# EAGLE library part CC3000 (library BaseApp)
Digikey No :- __296-35512-1-ND__
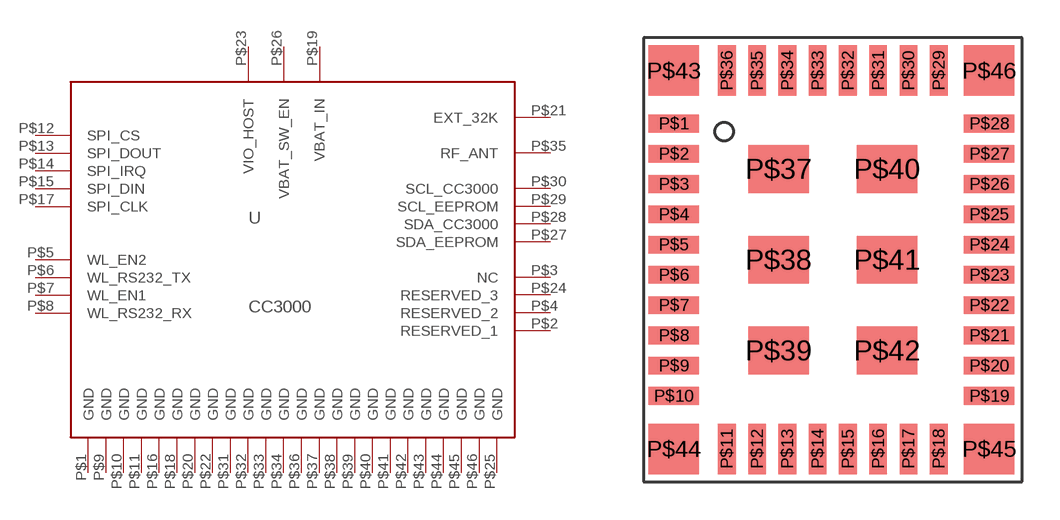
[diagram p93: symbol with the pads of CC3000; footprint CC3000]

Designator prefix -

## CC3000  [CC3000]
P$1  GND
P$2  RESERVED_1
P$3  NC
P$4  RESERVED_2
P$5  WL_EN2
P$6  WL_RS232_TX
P$7  WL_EN1
P$8  WL_RS232_RX
P$9  GND
P$10  GND
P$11  GND
P$12  SPI_CS
P$13  SPI_DOUT
P$14  SPI_IRQ
P$15  SPI_DIN
P$16  GND
P$17  SPI_CLK
P$18  GND
P$19  VBAT_IN
P$20  GND
P$21  EXT_32K
P$22  GND
P$23  VIO_HOST
P$24  RESERVED_3
P$25  GND
P$26  VBAT_SW_EN
P$27  SDA_EEPROM
P$28  SDA_CC3000
P$29  SCL_EEPROM
P$30  SCL_CC3000
P$31  GND
P$32  GND
P$33  GND
P$34  GND
P$35  RF_ANT
P$36  GND
P$37  GND
P$38  GND
P$39  GND
P$40  GND
P$41  GND
P$42  GND
P$43  GND
P$44  GND
P$45  GND
P$46  GND

## Footprint CC3000 (pad centres in mm)
smd 2 x 0.7: P$1 -6.3,5.4; P$2 -6.3,4.2; P$3 -6.3,3; P$4 -6.3,1.8; P$5 -6.3,0.6; P$6 -6.3,-0.6; P$7 -6.3,-1.8; P$8 -6.3,-3; P$9 -6.3,-4.2; P$10 -6.3,-5.4; P$19 6.2,-5.4; P$20 6.2,-4.2; P$21 6.2,-3; P$22 6.2,-1.8; P$23 6.2,-0.6; P$24 6.2,0.6; P$25 6.2,1.8; P$26 6.2,3; P$27 6.2,4.2; P$28 6.2,5.4
smd 0.7 x 2: P$11 -4.2,-7.5; P$12 -3,-7.5; P$13 -1.8,-7.5; P$14 -0.6,-7.5; P$15 0.6,-7.5; P$16 1.8,-7.5; P$17 3,-7.5; P$18 4.2,-7.5; P$29 4.2,7.5; P$30 3,7.5; P$31 1.8,7.5; P$32 0.6,7.5; P$33 -0.6,7.5; P$34 -1.8,7.5; P$35 -3,7.5; P$36 -4.2,7.5
smd 2.4 x 1.9: P$37 -2.15,3.6; P$38 -2.15,0; P$39 -2.15,-3.6; P$40 2.15,3.6; P$41 2.15,0; P$42 2.15,-3.6
smd 2 x 2: P$43 -6.3,7.5; P$44 -6.3,-7.5; P$45 6.2,-7.5; P$46 6.2,7.5